# Altium footprint library VHDR-SHR-TH-8X2.PcbLib: 1 footprints
Each footprint in its own frame and in the unit in brackets; x right, y up, seen from the top. Pads: shape width x height; smd on the part's side, far side on the other; paste and mask are expansions set on the pad; w line width, h text height; cw(c..) or ccw(c..) is an arc to the next point about the centre after c.
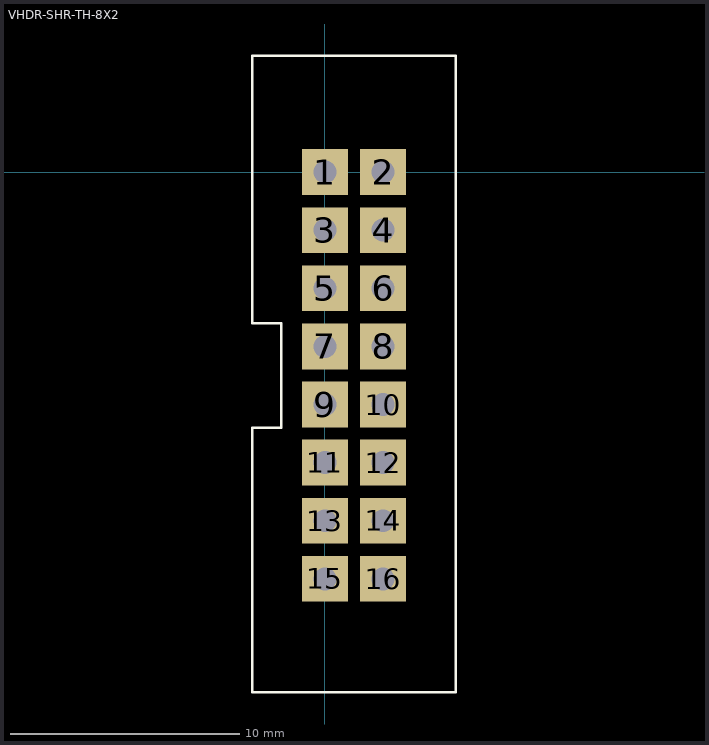
[diagram p0: the footprint, top view; thin cyan lines are the x and y axes]

## VHDR-SHR-TH-8X2 [mm]
pads (16):
  rect 2x2 hole 1: 1(0,0) 2(2.54,0) 3(0,-2.54) 4(2.54,-2.54) 5(0,-5.08) 6(2.54,-5.08) 7(0,-7.62) 8(2.54,-7.62) 9(0,-10.16) 10(2.54,-10.16) 11(0,-12.7) 12(2.54,-12.7) 13(0,-15.24) 14(2.54,-15.24) 15(0,-17.78) 16(2.54,-17.78)
Top Overlay:
  lines w0.1: -3.175,-22.733 -3.175,-11.176 -1.905,-11.176 -1.905,-6.604 -3.175,-6.604 -3.175,5.08 5.715,5.08 5.715,-22.733 -3.175,-22.733